# Altium schematic symbol library JTAG_10.SchLib: 1 symbol
Pins are listed as number, name and electrical type; pins without a type are passive.

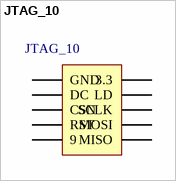
[diagram p0: symbol JTAG_10]

## JTAG_10
designator JTAG_10  (value not drawn)
footprint JTAG_10
pins: 1 GND, 2 3.3, 3 DC, 4  LD, 5 CSN, 6 SCLK, 7 RST, 8 MOSI, 9, 10 MISO